# Altium schematic symbol library 1190364.SchLib: 1 symbol
Pins are listed as number, name and electrical type; pins without a type are passive.

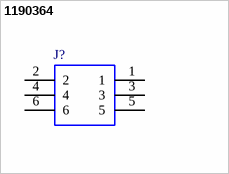
[diagram p0: symbol 1190364]

## 1190364
designator J?
Fixed Terminal Blocks LPTA 2,5/ 3-5,0; Manufacturer_Name: Phoenix Contact; Geometry.Height: 22.65mm; Mouser Part Number: 651-1190364; Mouser Price/Stock: https://www.mouser.co.uk/ProductDetail/Phoenix-Contact/1190364?qs=QNEnbhJQKvaxxoSFQSEyNA%3D%3D; Manufacturer_Part_Number: 1190364; Datasheet Link: https://www.phoenixcontact.com/nl-nl/producten/printplaatklem-lpta-25-3-50-1190364
footprint 1190364
pins: 1, 2, 3, 4, 5, 6